# Altium footprint library PcbLib1.PcbLib: 7 footprints
Each footprint in its own frame and in the unit in brackets; x right, y up, seen from the top. Pads: shape width x height; smd on the part's side, far side on the other; paste and mask are expansions set on the pad; w line width, h text height; cw(c..) or ccw(c..) is an arc to the next point about the centre after c.
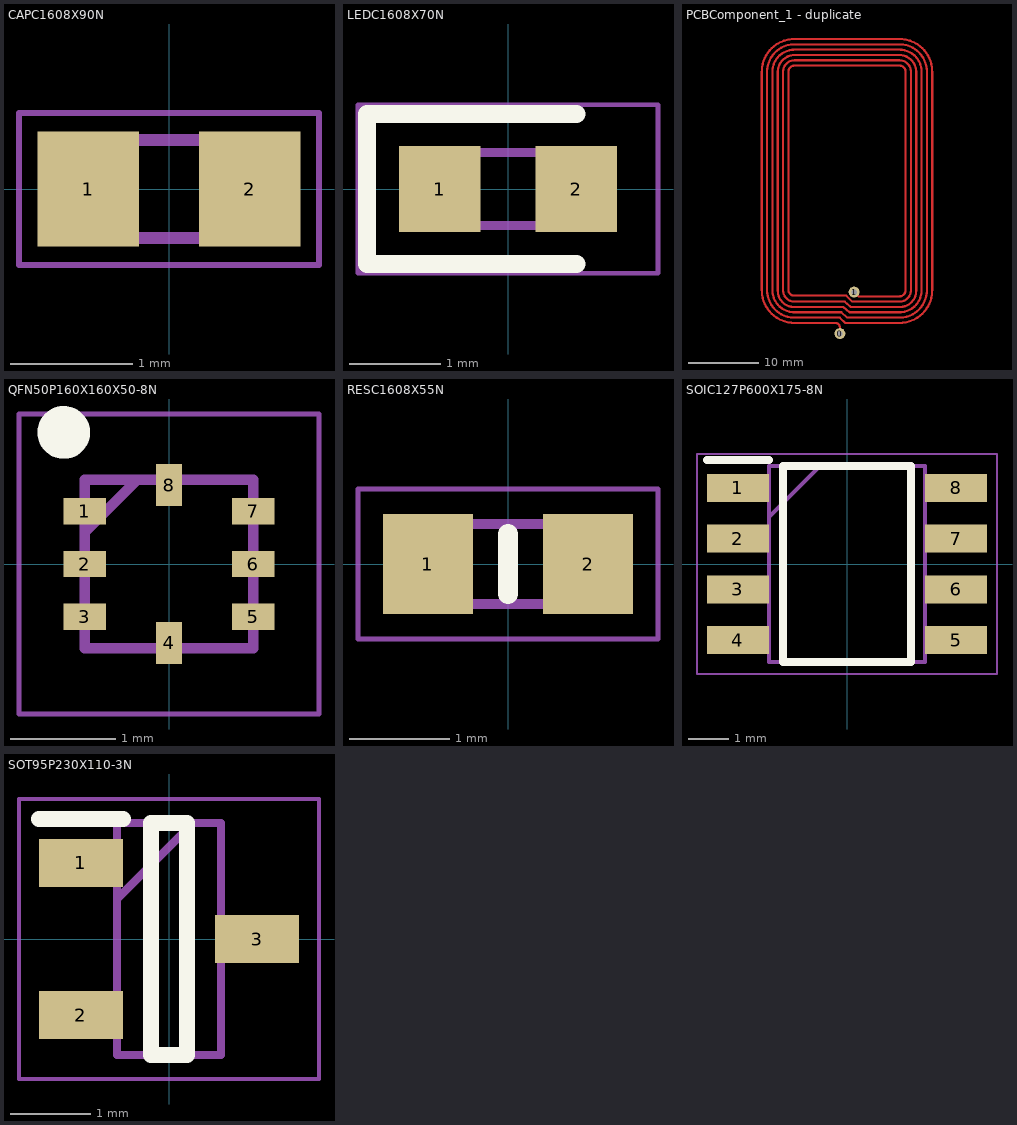
[diagram p0: the footprints below, top view; thin cyan lines are the x and y axes]

## CAPC1608X90N [mm]
pads (2):
  rect 0.83x0.94 smd: 1(-0.66,0) 2(0.66,0)
Mechanical 13:
  lines w0.1: -0.8,-0.4 0.8,-0.4 0.8,0.4 -0.8,0.4 -0.8,-0.4
Mechanical 15:
  lines w0.05: -1.225,-0.62 1.225,-0.62 1.225,0.62 -1.225,0.62 -1.225,-0.62
3D body "CC0603KRX7R6BB224.stp": height 0.9, standoff 0, extent -0.85,-0.45 0.85,0.45

## LEDC1608X70N [mm]
pads (2):
  rect 0.9x0.95 smd: 1(-0.75,0) 2(0.75,0)
Top Overlay:
  lines w0.2: 0.75,-0.825 -1.55,-0.825 -1.55,0.825 0.75,0.825
Mechanical 13:
  lines w0.1: -0.8,0.133 -0.533,0.4 ; -0.8,-0.4 -0.8,0.4 0.8,0.4 0.8,-0.4 -0.8,-0.4
Mechanical 15:
  lines w0.05: -1.65,-0.925 -1.65,0.925 1.65,0.925 1.65,-0.925 -1.65,-0.925
3D body "LTST-C190KRKT.step": height 0.8, standoff 0, extent -0.8,-0.419 0.8,0.381

## PCBComponent_1 - duplicate [mil]
pads (2):
  round 60 hole 30 mask+0: 0(-49561.09,-49994.09) 1(-49482.3,-49763.8)
Top Layer:
  lines w11.81: -49935.09,-49754 -49935.09,-48541.39 ; -49935,-49754 -49934.8,-49760.8 -49934.19,-49767.69 -49933.3,-49774.39 -49931.89,-49781.09 -49930.19,-49787.8 -49928.19,-49794.3 -49925.69,-49800.69 -49922.89,-49806.89 -49919.8,-49813 -49916.3,-49818.89 -49912.5,-49824.59 -49908.39,-49830.09 -49904,-49835.3 -49899.3,-49840.3 -49894.3,-49845 -49889.09,-49849.39 -49883.59,-49853.5 -49877.89,-49857.3 -49872,-49860.8 -49865.89,-49863.89 -49859.69,-49866.69 -49853.3,-49869.19 -49846.8,-49871.19 -49840.09,-49872.89 -49833.39,-49874.3 -49826.69,-49875.19 -49819.8,-49875.8 -49813,-49876 -49553.19,-49876 -49519.69,-49905.59 -49230.3,-49905.59 -49222.59,-49905.39 -49215,-49904.8 -49207.3,-49903.89 -49199.8,-49902.5 -49192.3,-49900.8 -49184.89,-49898.59 -49177.59,-49896.19 -49170.5,-49893.3 -49163.5,-49890.09 -49156.69,-49886.59 -49150.09,-49882.69 -49143.69,-49878.39 -49137.5,-49873.89 -49131.59,-49869 -49125.89,-49863.89 -49120.39,-49858.39 -49115.3,-49852.69 -49110.39,-49846.8 -49105.89,-49840.59 -49101.59,-49834.19 -49097.69,-49827.59 -49094.19,-49820.8 -49091,-49813.8 -49088.09,-49806.69 -49085.69,-49799.39 -49083.5,-49792 -49081.8,-49784.5 -49080.39,-49777 -49079.5,-49769.3 -49078.89,-49761.69 -49078.69,-49754 ; -49935,-48541.39 -49934.8,-48534.59 -49934.19,-48527.69 -49933.3,-48521 -49931.89,-48514.3 -49930.19,-48507.59 -49928.19,-48501.09 -49925.69,-48494.69 -49922.89,-48488.5 -49919.8,-48482.39 -49916.3,-48476.5 -49912.5,-48470.8 -49908.39,-48465.3 -49904,-48460.09 -49899.3,-48455.09 -49894.3,-48450.39 -49889.09,-48446 -49883.59,-48441.89 -49877.89,-48438.09 -49872,-48434.59 -49865.89,-48431.5 -49859.69,-48428.69 -49853.3,-48426.19 -49846.8,-48424.19 -49840.09,-48422.5 -49833.39,-48421.09 -49826.69,-48420.19 -49819.8,-48419.59 -49813,-48419.39 ; -49905.59,-49758 -49905.3,-49763.89 -49904.5,-49769.8 -49903.5,-49775.59 -49902,-49781.3 -49900.09,-49787 -49897.89,-49792.5 -49895.39,-49797.8 -49892.5,-49803 -49889.19,-49808 -49885.69,-49812.69 -49881.8,-49817.19 -49877.69,-49821.39 -49873.19,-49825.39 -49868.59,-49829.09 -49863.69,-49832.39 -49858.59,-49835.39 -49853.3,-49838.09 -49847.8,-49840.39 -49842.3,-49842.39 -49836.5,-49844 -49830.69,-49845.19 -49824.89,-49846.09 -49819,-49846.5 -49813,-49846.59 ; -49905.5,-49757.89 -49905.5,-48545.3 ; -49905.5,-48545.39 -49905.39,-48539.39 -49905,-48533.5 -49904.19,-48527.59 -49903,-48521.8 -49901.5,-48516.09 -49899.59,-48510.39 -49897.3,-48505 -49894.69,-48499.59 -49891.8,-48494.39 -49888.59,-48489.5 -49885.09,-48484.69 -49881.19,-48480.19 -49877.09,-48475.89 -49872.69,-48471.89 -49868.09,-48468.09 -49863.3,-48464.69 -49858.19,-48461.59 -49853,-48458.8 -49847.59,-48456.3 -49842.09,-48454.19 -49836.39,-48452.39 -49830.59,-48451 -49824.8,-48449.89 -49818.89,-48449.19 -49813,-48448.89 -49230.3,-48448.89 -49224.39,-48449.19 -49218.5,-48449.89 -49212.69,-48451 -49206.89,-48452.39 -49201.19,-48454.19 -49195.69,-48456.3 -49190.3,-48458.8 -49185.09,-48461.59 -49180,-48464.69 -49175.19,-48468.09 -49170.59,-48471.89 -49166.19,-48475.89 -49162.09,-48480.19 -49158.19,-48484.69 -49154.69,-48489.5 -49151.5,-48494.39 -49148.59,-48499.59 -49146,-48505 -49143.69,-48510.39 -49141.8,-48516.09 -49140.3,-48521.8 -49139.09,-48527.59 -49138.3,-48533.5 -49137.89,-48539.39 -49137.8,-48545.39 ; -49813,-49846.5 -49541.39,-49846.5 -49507.89,-49876 -49230.3,-49876 -49223.5,-49875.8 -49216.59,-49875.19 -49209.89,-49874.3 -49203.19,-49872.89 -49196.5,-49871.19 -49190,-49869.19 -49183.59,-49866.69 -49177.39,-49863.89 -49171.3,-49860.8 -49165.39,-49857.3 -49159.69,-49853.5 -49154.19,-49849.39 -49149,-49845 -49144,-49840.3 -49139.3,-49835.3 -49134.89,-49830.09 -49130.8,-49824.59 -49127,-49818.89 -49123.5,-49813 -49120.39,-49806.89 -49117.59,-49800.69 -49115.09,-49794.3 -49113.09,-49787.8 -49111.39,-49781.09 -49110,-49774.39 -49109.09,-49767.69 -49108.5,-49760.8 -49108.3,-49754 -49108.3,-48541.39 -49108.5,-48534.59 -49109.09,-48527.69 -49110,-48521 -49111.39,-48514.3 -49113.09,-48507.59 -49115.09,-48501.09 -49117.59,-48494.69 -49120.39,-48488.5 -49123.5,-48482.39 -49127,-48476.5 -49130.8,-48470.8 -49134.89,-48465.3 -49139.3,-48460.09 -49144,-48455.09 -49149,-48450.39 -49154.19,-48446 -49159.69,-48441.89 -49165.39,-48438.09 -49171.3,-48434.59 -49177.39,-48431.5 -49183.59,-48428.69 -49190,-48426.19 -49196.5,-48424.19 -49203.19,-48422.5 -49209.89,-48421.09 -49216.59,-48420.19 -49223.5,-48419.59 -49230.3,-48419.39 ; -49813,-48419.3 -49230.3,-48419.3 ; -49811.09,-49905.59 -49783.5,-49905.59 ; -49561.09,-49994.09 -49561.09,-49960.69 ; -49561,-49960.69 -49561.19,-49957.59 -49561.69,-49954.59 -49562.69,-49951.59 -49563.89,-49948.8 -49565.5,-49946.19 -49567.39,-49943.69 -49569.59,-49941.5 -49572.09,-49939.59 -49574.69,-49938 -49577.5,-49936.8 -49580.5,-49935.8 -49583.5,-49935.3 -49586.59,-49935.09 -49813,-49935.09 -49821.59,-49934.89 -49830.19,-49934.3 -49838.8,-49933.3 -49847.3,-49931.8 -49855.69,-49930 -49864,-49927.8 -49872.19,-49925.09 -49880.3,-49922.09 -49888.19,-49918.69 -49896,-49915 -49903.5,-49910.8 -49910.89,-49906.39 -49918,-49901.5 -49924.89,-49896.39 -49931.59,-49890.89 -49938,-49885.09 -49944.09,-49879 -49949.89,-49872.59 -49955.39,-49865.89 -49960.5,-49859 -49965.39,-49851.89 -49969.8,-49844.59 -49974,-49837 -49977.69,-49829.19 -49981.09,-49821.3 -49984.09,-49813.19 -49986.8,-49805 -49989,-49796.69 -49990.8,-49788.3 -49992.3,-49779.8 -49993.3,-49771.19 -49993.89,-49762.59 -49994.09,-49754 -49994.09,-48541.39 -49993.89,-48532.8 -49993.3,-48524.19 -49992.3,-48515.59 -49990.8,-48507.09 -49989,-48498.69 -49986.8,-48490.39 -49984.09,-48482.19 -49981.09,-48474.09 -49977.69,-48466.19 -49974,-48458.39 -49969.8,-48450.8 -49965.39,-48443.5 -49960.5,-48436.39 -49955.39,-48429.5 -49949.89,-48422.8 -49944.09,-48416.39 -49938,-48410.3 -49931.59,-48404.5 -49924.89,-48399 -49918,-48393.89 -49910.89,-48389 -49903.5,-48384.59 -49896,-48380.39 -49888.19,-48376.69 -49880.3,-48373.3 -49872.19,-48370.3 -49864,-48367.59 -49855.69,-48365.39 -49847.3,-48363.59 -49838.8,-48362.09 -49830.19,-48361.09 -49821.59,-48360.5 -49813,-48360.3 -49230.3,-48360.3 -49221.69,-48360.5 -49213.09,-48361.09 -49204.5,-48362.09 -49196,-48363.59 -49187.59,-48365.39 -49179.3,-48367.59 -49171.09,-48370.3 -49163,-48373.3 -49155.09,-48376.69 -49147.3,-48380.39 -49139.69,-48384.59 -49132.39,-48389 -49125.3,-48393.89 -49118.39,-48399 -49111.69,-48404.5 -49105.3,-48410.3 -49099.19,-48416.39 -49093.39,-48422.8 -49087.89,-48429.5 -49082.8,-48436.39 -49077.89,-48443.5 -49073.5,-48450.8 -49069.3,-48458.39 -49065.59,-48466.19 -49062.19,-48474.09 -49059.19,-48482.19 -49056.5,-48490.39 -49054.3,-48498.69 -49052.5,-48507.09 -49051,-48515.59 -49050,-48524.19 -49049.39,-48532.8 -49049.19,-48541.39 -49049.19,-49754 -49049.39,-49762.59 -49050,-49771.19 -49051,-49779.8 -49052.5,-49788.3 -49054.3,-49796.69 -49056.5,-49805 -49059.19,-49813.19 -49062.19,-49821.3 -49065.59,-49829.19 -49069.3,-49837 -49073.5,-49844.5 -49077.89,-49851.89 -49082.8,-49859 -49087.89,-49865.89 -49093.39,-49872.59 -49099.19,-49879 -49105.3,-49885.09 -49111.69,-49890.89 -49118.39,-49896.39 -49125.3,-49901.5 -49132.39,-49906.39 -49139.8,-49910.8 -49147.3,-49915 -49155.09,-49918.69 -49163,-49922.09 -49171.09,-49925.09 -49179.3,-49927.8 -49187.59,-49930 -49196,-49931.8 -49204.5,-49933.3 -49213.09,-49934.3 -49221.69,-49934.89 -49230.3,-49935.09 -49531.5,-49935.09 -49561.09,-49905.59 -49783.5,-49905.59 ; -49482.3,-49763.8 -49458.69,-49787.39 -49230.3,-49787.39 ; -49230.39,-49846.59 -49224.39,-49846.5 -49218.5,-49846.09 -49212.69,-49845.19 -49206.89,-49844 -49201.09,-49842.39 -49195.59,-49840.39 -49190.09,-49838.09 -49184.8,-49835.39 -49179.69,-49832.39 -49174.8,-49829.09 -49170.19,-49825.39 -49165.69,-49821.39 -49161.59,-49817.19 -49157.69,-49812.69 -49154.19,-49808 -49150.89,-49803 -49148,-49797.8 -49145.5,-49792.5 -49143.3,-49787 -49141.39,-49781.3 -49139.89,-49775.59 -49138.89,-49769.8 -49138.09,-49763.89 -49137.8,-49758 ; -49230.3,-49846.5 -49500,-49846.5 -49533.5,-49817 -49813,-49817 -49817.89,-49816.8 -49822.89,-49816.19 -49827.69,-49815.3 -49832.5,-49813.89 -49837.09,-49812.19 -49841.59,-49810.09 -49845.89,-49807.69 -49850,-49805 -49853.89,-49801.89 -49857.5,-49798.5 -49860.89,-49794.89 -49864,-49791 -49866.69,-49786.89 -49869.09,-49782.59 -49871.19,-49778.09 -49872.89,-49773.5 -49874.3,-49768.69 -49875.19,-49763.89 -49875.8,-49758.89 -49876,-49754 -49876,-48541.39 -49875.8,-48536.5 -49875.19,-48531.5 -49874.3,-48526.69 -49872.89,-48521.89 -49871.19,-48517.3 -49869.09,-48512.8 -49866.69,-48508.5 -49864,-48504.39 -49860.89,-48500.5 -49857.5,-48496.89 -49853.89,-48493.5 -49850,-48490.39 -49845.89,-48487.69 -49841.59,-48485.3 -49837.09,-48483.19 -49832.5,-48481.5 -49827.69,-48480.09 -49822.89,-48479.19 -49817.89,-48478.59 -49813,-48478.39 -49230.3,-48478.39 -49225.39,-48478.59 -49220.39,-48479.19 -49215.59,-48480.09 -49210.8,-48481.5 -49206.19,-48483.19 -49201.69,-48485.3 -49197.39,-48487.69 -49193.3,-48490.39 -49189.39,-48493.5 -49185.8,-48496.89 -49182.39,-48500.5 -49179.3,-48504.39 -49176.59,-48508.5 -49174.19,-48512.8 -49172.09,-48517.3 -49170.39,-48521.89 -49169,-48526.69 -49168.09,-48531.5 -49167.5,-48536.5 -49167.3,-48541.39 ; -49230.3,-49787.5 -49226.8,-49787.3 -49223.3,-49786.8 -49219.89,-49785.89 -49216.69,-49784.59 -49213.59,-49783 -49210.59,-49781.09 -49207.89,-49778.89 -49205.39,-49776.39 -49203.19,-49773.69 -49201.3,-49770.69 -49199.69,-49767.59 -49198.39,-49764.39 -49197.5,-49761 -49197,-49757.5 -49196.8,-49754 ; -49196.89,-49754 -49196.89,-48541.39 ; -49196.8,-48541.39 -49197,-48537.89 -49197.5,-48534.39 -49198.39,-48531 -49199.69,-48527.8 -49201.3,-48524.69 -49203.19,-48521.69 -49205.39,-48519 -49207.89,-48516.5 -49210.59,-48514.3 -49213.59,-48512.39 -49216.69,-48510.8 -49219.89,-48509.5 -49223.3,-48508.59 -49226.8,-48508.09 -49230.3,-48507.89 -49813,-48507.89 -49816.5,-48508.09 -49820,-48508.59 -49823.39,-48509.5 -49826.59,-48510.8 -49829.8,-48512.39 -49832.69,-48514.3 -49835.39,-48516.5 -49837.89,-48519 -49840.09,-48521.69 -49842,-48524.69 -49843.59,-48527.8 -49844.89,-48531 -49845.8,-48534.39 -49846.3,-48537.89 -49846.5,-48541.39 -49846.5,-49754 -49846.19,-49757.3 -49845.39,-49760.5 -49844.39,-49763.59 -49843,-49766.59 -49841.3,-49769.5 -49839.39,-49772.09 -49837.09,-49774.59 -49834.59,-49776.8 -49831.89,-49778.69 -49829.09,-49780.3 -49826,-49781.59 -49822.89,-49782.59 -49819.59,-49783.3 -49816.3,-49783.59 -49813,-49783.5 -49525.59,-49783.5 -49492.19,-49817 -49230.3,-49817 -49225.39,-49816.8 -49220.39,-49816.19 -49215.59,-49815.3 -49210.8,-49813.89 -49206.19,-49812.19 -49201.69,-49810.09 -49197.39,-49807.69 -49193.3,-49805 -49189.39,-49801.89 -49185.8,-49798.5 -49182.39,-49794.89 -49179.3,-49791 -49176.59,-49786.89 -49174.19,-49782.59 -49172.09,-49778.09 -49170.39,-49773.5 -49169,-49768.69 -49168.09,-49763.89 -49167.5,-49758.89 -49167.3,-49754 ; -49167.39,-49754 -49167.39,-48541.39 ; -49137.8,-49757.89 -49137.8,-48545.3 ; -49078.8,-49754 -49078.8,-49700.8 -49078.8,-48541.39 ; -49078.69,-48541.39 -49078.89,-48533.69 -49079.5,-48526.09 -49080.39,-48518.39 -49081.8,-48510.89 -49083.5,-48503.39 -49085.69,-48496 -49088.09,-48488.69 -49091,-48481.59 -49094.19,-48474.59 -49097.69,-48467.8 -49101.59,-48461.19 -49105.89,-48454.8 -49110.39,-48448.59 -49115.3,-48442.69 -49120.39,-48437 -49125.89,-48431.5 -49131.59,-48426.39 -49137.5,-48421.5 -49143.69,-48417 -49150.09,-48412.69 -49156.69,-48408.8 -49163.5,-48405.3 -49170.5,-48402.09 -49177.59,-48399.19 -49184.89,-48396.8 -49192.3,-48394.59 -49199.8,-48392.89 -49207.3,-48391.5 -49215,-48390.59 -49222.59,-48390 -49230.3,-48389.8 -49813,-48389.8 -49820.69,-48390 -49828.3,-48390.59 -49836,-48391.5 -49843.5,-48392.89 -49851,-48394.59 -49858.39,-48396.8 -49865.69,-48399.19 -49872.8,-48402.09 -49879.8,-48405.3 -49886.59,-48408.8 -49893.19,-48412.69 -49899.59,-48417 -49905.8,-48421.5 -49911.69,-48426.39 -49917.39,-48431.5 -49922.89,-48437 -49928,-48442.69 -49932.89,-48448.59 -49937.39,-48454.8 -49941.69,-48461.19 -49945.59,-48467.8 -49949.09,-48474.59 -49952.3,-48481.59 -49955.19,-48488.69 -49957.59,-48496 -49959.8,-48503.39 -49961.5,-48510.89 -49962.89,-48518.39 -49963.8,-48526.09 -49964.39,-48533.69 -49964.59,-48541.39 -49964.59,-49754 -49964.39,-49761.69 -49963.8,-49769.3 -49962.89,-49777 -49961.5,-49784.5 -49959.8,-49792 -49957.59,-49799.39 -49955.19,-49806.69 -49952.3,-49813.8 -49949.09,-49820.8 -49945.59,-49827.59 -49941.69,-49834.19 -49937.39,-49840.59 -49932.89,-49846.8 -49928,-49852.69 -49922.89,-49858.39 -49917.39,-49863.89 -49911.69,-49869 -49905.8,-49873.89 -49899.59,-49878.39 -49893.19,-49882.69 -49886.59,-49886.59 -49879.8,-49890.09 -49872.8,-49893.3 -49865.69,-49896.19 -49858.39,-49898.59 -49851,-49900.8 -49843.5,-49902.5 -49836,-49903.89 -49828.3,-49904.8 -49820.69,-49905.39 -49813,-49905.59 -49783.5,-49905.59

## QFN50P160X160X50-8N [mm]
pads (8):
  rect 0.4x0.25 smd: 1(-0.8,0.5) 2(-0.8,0) 3(-0.8,-0.5) 5(0.8,-0.5) 6(0.8,0) 7(0.8,0.5)
  rect 0.25x0.4 smd: 4(0,-0.75) 8(0,0.75)
Top Overlay:
  circle w0.25: c-1,1.25 r0.125
Mechanical 13:
  lines w0.1: -0.8,0.3 -0.3,0.8 ; -0.8,-0.8 -0.8,0.8 0.8,0.8 0.8,-0.8 -0.8,-0.8
Mechanical 15:
  lines w0.05: -1.425,-1.425 -1.425,1.425 1.425,1.425 1.425,-1.425 -1.425,-1.425
3D body "NT3H2111W0FHKH.stp": height 0.5, standoff 0, extent -0.85,-0.85 0.85,0.85

## RESC1608X55N [mm]
pads (2):
  rect 0.9x1 smd: 1(-0.8,0) 2(0.8,0)
Top Overlay:
  lines w0.2: 0,-0.3 0,0.3
Mechanical 13:
  lines w0.1: -0.8,-0.4 0.8,-0.4 0.8,0.4 -0.8,0.4 -0.8,-0.4
Mechanical 15:
  lines w0.05: -1.5,-0.75 1.5,-0.75 1.5,0.75 -1.5,0.75 -1.5,-0.75
3D body "0603WAJ0000T5E.stp": height 0.55, standoff 0, extent -0.8,-0.4 0.8,0.4

## SOIC127P600X175-8N [mm]
pads (8):
  rect 1.55x0.7 smd: 1(-2.725,1.905) 2(-2.725,0.635) 3(-2.725,-0.635) 4(-2.725,-1.905) 5(2.725,-1.905) 6(2.725,-0.635) 7(2.725,0.635) 8(2.725,1.905)
Top Overlay:
  lines w0.2: -3.5,2.605 -1.95,2.605 ; -1.6,-2.45 -1.6,2.45 1.6,2.45 1.6,-2.45 -1.6,-2.45
Mechanical 13:
  lines w0.1: -1.95,1.18 -0.68,2.45 ; -1.95,-2.45 -1.95,2.45 1.95,2.45 1.95,-2.45 -1.95,-2.45
Mechanical 15:
  lines w0.05: -3.75,-2.75 -3.75,2.75 3.75,2.75 3.75,-2.75 -3.75,-2.75
3D body "NT3H2111W0FT1.stp": height 1.52, standoff 0.02, extent -3,-2.45 3,2.45

## SOT95P230X110-3N [mm]
pads (3):
  rect 1.05x0.6 smd: 1(-1.1,0.95) 2(-1.1,-0.95) 3(1.1,0)
Top Overlay:
  lines w0.2: -1.625,1.5 -0.575,1.5 ; -0.225,-1.45 -0.225,1.45 0.225,1.45 0.225,-1.45 -0.225,-1.45
Mechanical 13:
  lines w0.1: -0.65,0.5 0.3,1.45 ; -0.65,-1.45 -0.65,1.45 0.65,1.45 0.65,-1.45 -0.65,-1.45
Mechanical 15:
  lines w0.05: -1.875,-1.75 -1.875,1.75 1.875,1.75 1.875,-1.75 -1.875,-1.75
3D body "PMBT3904,215.stp": height 0.95, standoff 0, extent -1.201,-1.448 1.199,1.452